# EAGLE library part AD9744 (library Jim)
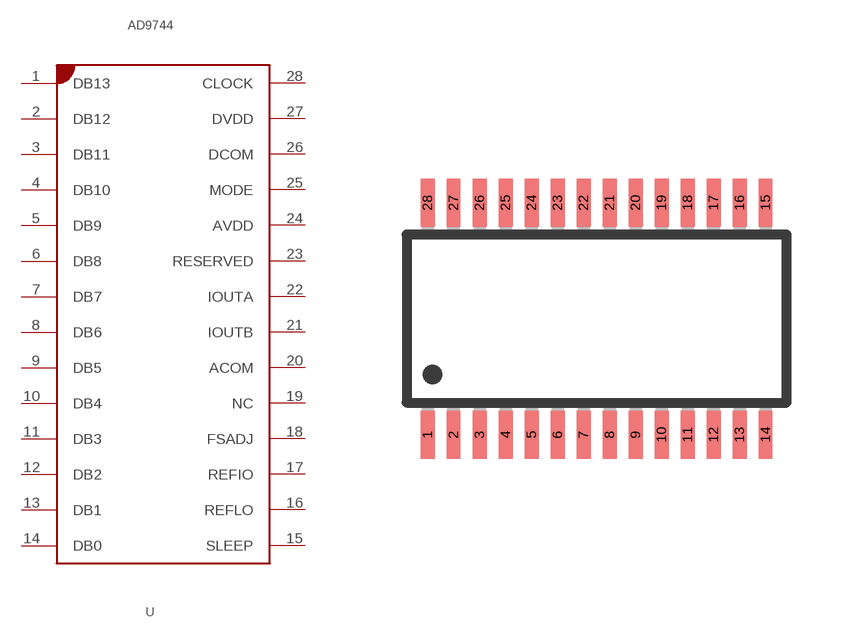
[diagram p17: symbol with the pads of TSSOP28; footprint TSSOP28]

Designator prefix -

## AD9744  [TSSOP28]
1  DB13  in
2  DB12  in
3  DB11  in
4  DB10  in
5  DB9  in
6  DB8  in
7  DB7  in
8  DB6  in
9  DB5  in
10  DB4  in
11  DB3  in
12  DB2  in
13  DB1  in
14  DB0  in
15  SLEEP  in
16  REFLO  in
17  REFIO  in
18  FSADJ  in
19  NC
20  ACOM  pwr
21  IOUTB  out
22  IOUTA  out
23  RESERVED
24  AVDD  pwr
25  MODE  in
26  DCOM  pwr
27  DVDD  pwr
28  CLOCK  in

## Footprint TSSOP28 (pad centres in mm)
28-Lead TSSOP Package RU-28
smd 0.35 x 1.2: 1 -4.225,-2.9; 2 -3.575,-2.9; 3 -2.925,-2.9; 4 -2.275,-2.9; 5 -1.625,-2.9; 6 -0.975,-2.9; 7 -0.325,-2.9; 8 0.325,-2.9; 9 0.975,-2.9; 10 1.625,-2.9; 11 2.275,-2.9; 12 2.925,-2.9; 13 3.575,-2.9; 14 4.225,-2.9; 15 4.225,2.9; 16 3.575,2.9; 17 2.925,2.9; 18 2.275,2.9; 19 1.625,2.9; 20 0.975,2.9; 21 0.325,2.9; 22 -0.325,2.9; 23 -0.975,2.9; 24 -1.625,2.9; 25 -2.275,2.9; 26 -2.925,2.9; 27 -3.575,2.9; 28 -4.225,2.9